# Altium schematic symbol library battery_chargers_and_fuel_gauges.SchLib: 8 symbols
Pins are listed as number, name and electrical type; pins without a type are passive.

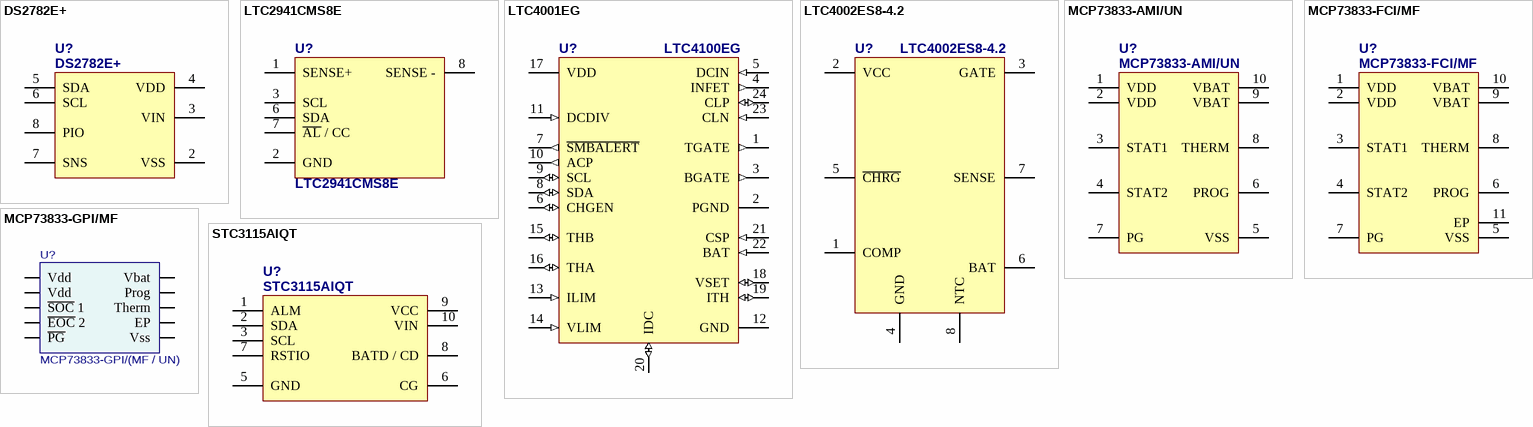
[diagram p0: symbols DS2782E+ to STC3115AIQT]

## DS2782E+
designator U?
Stand-Alone Fuel Gauge IC
footprint TSSOP8 (JEDEC MO-153 AA (TSSOP-8))
pins: 1 NC hidden, 2 VSS, 3 VIN, 4 VDD, 5 SDA, 6 SCL, 7 SNS, 8 PIO

## LTC2941CMS8E
designator U?
Battery Gas Gauge with I2C Interface
footprint MSOP8_DIE_PAD (8-Lead Plastic MSOP, Exposed Die Pad)
pins: 1 SENSE+, 2 GND, 3 SCL, 6 SDA, 7 ~{AL} / CC, 8 SENSE -

## LTC4001EG
designator U?, comment LTC4100EG
Smart Battery Charger Controller; HelpURL: http://www.farnell.com/datasheets/1717081.pdf; Supplier: Farnell; Supplier_nr: 1273987
footprint SSOP24
pins: 1 TGATE (out), 2 PGND (power), 3 BGATE (out), 4 INFET (out), 5 DCIN (in), 6 CHGEN (io), 7 ~{SMBALERT} (out), 8 SDA (io), 9 SCL (io), 10 ACP (out), 11 DCDIV (in), 12 GND (power), 13 ILIM (in), 14 VLIM (in), 15 THB (io), 16 THA (io), 17 VDD (power), 18 VSET (io), 19 ITH (io), 20 IDC (io), 21 CSP (in), 22 BAT (in), 23 CLN (in), 24 CLP (io)

## LTC4002ES8-4.2
designator U?
Standalone Li-Ion  Switch Mode Battery Charger; Supplier 1: Farnell; Supplier 2: TME; Supplier Part Number 1: 2102628; Supplier Part Number 2: LTC4002ES8-4.2
footprint SO8 (Small Outline; 8 Leads; Body Width 3.7 mm; Pitch 1.27 mm)
pins: 1 COMP, 2 VCC, 3 GATE, 4 GND, 5 ~{CHRG}, 6 BAT, 7 SENSE, 8 NTC
1 alternate drawing of the same symbol

## MCP73833-AMI/UN
designator U?
Stand-Alone Linear Li-Ion / Li-Polymer Charge  Management Controller
footprint MSOP10
pins: 1 VDD, 2 VDD, 3 STAT1, 4 STAT2, 5 VSS, 6 PROG, 7 PG, 8 THERM, 9 VBAT, 10 VBAT

## MCP73833-FCI/MF
designator U?
Stand-Alone Linear Li-Ion / Li-Polymer Charge  Management Controller
footprint DFN10_3x3MM (10 lead 3 x 3 mm)
pins: 1 VDD, 2 VDD, 3 STAT1, 4 STAT2, 5 VSS, 6 PROG, 7 PG, 8 THERM, 9 VBAT, 10 VBAT, 11 EP

## MCP73833-GPI/MF
designator U?, comment MCP73833-GPI/(MF / UN)
Li-ion charger 1A Power Good out (MCP73833-GPI/MF); Supplier: Mouser; Supplier Nr: MCP73833-GPI/MF
footprint DFN10 + MSOP10 (10 lead 3 x 3 mm)
pins: 1 Vdd, 2 Vdd, 3 ~{SOC} 1, 4 ~{EOC} 2, 5 Vss, 6 Prog, 7 ~{PG}, 8 Therm, 9 Vbat, 10 Vbat, 11 EP

## STC3115AIQT
designator U?
Gas gauge IC with alarm output for handheld applications
footprint DFN10_2x3mm (10 lead 2 x 3 mm)
pins: 1 ALM, 2 SDA, 3 SCL, 5 GND, 6 CG, 7 RSTIO, 8 BATD / CD, 9 VCC, 10 VIN